# EAGLE library part LED_MARUBENI (library iBionics)
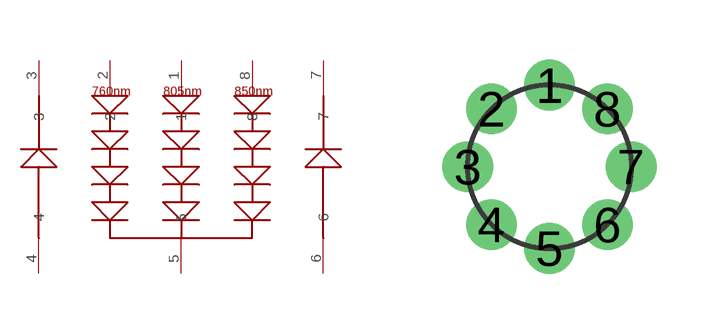
[diagram p12: symbol with the pads of LED_MARUBENI; footprint LED_MARUBENI]

Designator prefix -

## LED_MARUBENI  [LED_MARUBENI]
1  1
2  2
3  3
4  4
5  5
6  6
7  7
8  8

## Footprint LED_MARUBENI (pad centres in mm)
drill 0.762: 1 0,2.04; 2 -1.45,1.45; 3 -2.04,0; 4 -1.45,-1.45; 5 0,-2.04; 6 1.45,-1.45; 7 2.04,0; 8 1.45,1.45